# Altium schematic symbol library FPGA_breakout_board.SCHLIB: 34 symbols
Pins are listed as number, name and electrical type; pins without a type are passive.

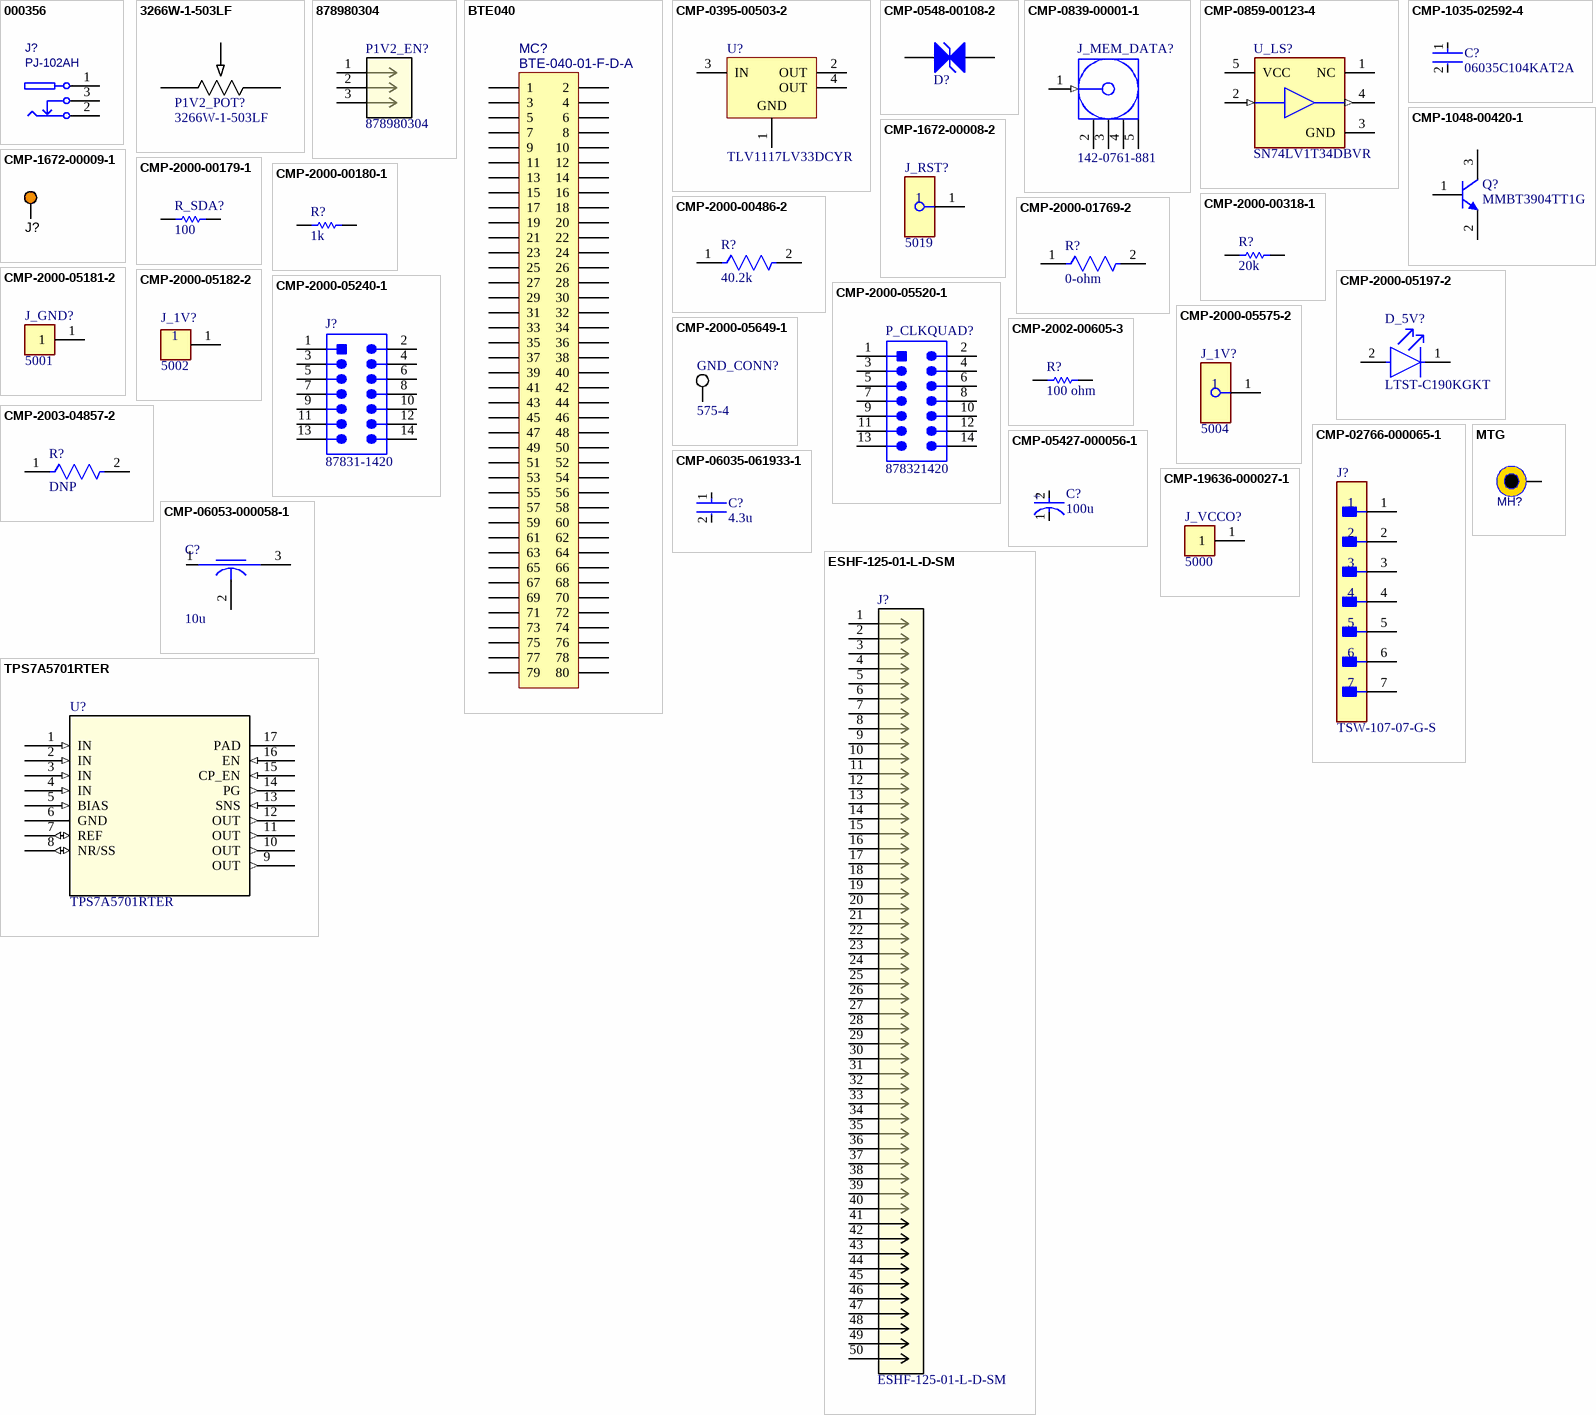
[diagram p0: symbols 000356 to TPS7A5701RTER]

## 000356
designator J?, comment PJ-102AH
DC power connector - high current; Manufacturer: CUI Inc.; partnumber: 000356; Description 2: 2.1mm / 5.5mm; Manufacturer_PN: PJ-102AH; Supplier 1: Digikey; Supplier Part Number 1: CP-102AH-ND; ClassName: InputPowerComponent
footprint CUI-PJ102A
pins: 1, 2, 3

## 3266W-1-503LF
designator P1V2_POT?
No Description Available; Mfr_Name: Bourns Electronics; Supplier 1: Digikey; Supplier Part Number 1: 3266W-503LF-ND
footprint POT_3266W
pins: 1, 2, 3

## 878980304
designator P1V2_EN?
No Description Available; Mfr_Name: Molex Connector Corporation; RefDes: RefDes; Type: Type
footprint CONN03_87898_M-5p84_MOL
pins: 1, 2, 3

## BTE040
designator MC?, comment BTE-040-01-F-D-A
0.8mm high-density header; Manufacturer: Samtec; partnumber: 000059; Description 2: 80-pin, Gold flash, Mated height: 5.00mm (0.197 inch); Manufacturer_PN: BTE-040-01-F-D-A; updated_on: 1/18/2016 3:47:24 PM
footprint BTE-040
pins: 1, 2, 3, 4, 5, 6, 7, 8, 9, 10, 11, 12, 13, 14, 15, 16, 17, 18, 19, 20, 21, 22, 23, 24, 25, 26, 27, 28, 29, 30, 31, 32, 33, 34, 35, 36, 37, 38, 39, 40, 41, 42, 43, 44, 45, 46, 47, 48, 49, 50, 51, 52, 53, 54, 55, 56, 57, 58, 59, 60, 61, 62, 63, 64, 65, 66, 67, 68, 69, 70, 71, 72, 73, 74, 75, 76, 77, 78, 79, 80

## CMP-0395-00503-2
designator U?, comment TLV1117LV33DCYR
Single Output LDO, 1 A, Fixed 3.3 V Output, 2 to 5.5 V Input, 4-pin SOT-223 (DCY), -40 to 125 degC, Green (RoHS & no Sb/Br); Manufacturer: Texas Instruments; Vout Adj(Min)(V): 3.3; Vdo(Typ)(mV): 1200; Iq(Typ)(mA): 0.05; Accuracy(%): 2; Iout(Max)(A): 1; SubFamily: Single Channel LDO; Vin(Max)(V): 5.5; PackageReference: DCY0004A; PackageDescription: 4-Pin Plastic Small Outline, Body 3.5 x 6.5 mm, Pitch 2.3 mm; Vout Adj(Max)(V): 3.3; Mounting Technology: Surface Mount; ComponentLink2Description: Datasheet; ComponentLink1Description: Manufacturer URL; PartNumber: TLV1117LV33DCYR; ComponentLink3Description: Package Specification; ComponentLink1URL: http://www.ti.com/; ComponentLink2URL: http://www.ti.com/general/docs/lit/getliterature.tsp?genericPartNumber=TLV1117LV33&fileType=pdf; Fixed Output Options(V): 3.3; PackageVersion: 4202506/B; Vin(Min)(V): 2; DatasheetVersion: SBVS160A; Eco-Plan: Green (RoHS & no Sb/Br); ComponentLink3URL: http://www.ti.com/litv/pdf/mpds094a; Code_JEDEC: TO-261
footprint DCY0004A_N (SOT223, 4-Leads, Body 6.7x3.7mm, Pitch 2.3mm, IPC Medium Density)
footprint DCY0004A_L (SOT223, 4-Leads, Body 6.7x3.7mm, Pitch 2.3mm, IPC High Density)
footprint DCY0004A_M (SOT223, 4-Leads, Body 6.7x3.7mm, Pitch 2.3mm, IPC Low Density)
pins: 1 GND (power) "Ground pin", 2 OUT (power) "Regulated output voltage pin.", 3 IN (power) "Input pin.", 4 OUT (power) "Regulated output voltage pin."

## CMP-0548-00108-2
designator D?, comment SMAJ6.0CAHE3/5A  (value not drawn)
Transient Voltage Suppressor, 6.40 to 231 V, 6 V Stand-off Voltage, Bi-Directional, -55 to 155 degC, 2-pin DO-214AC, Pb-Free, Tape and Reel; Manufacturer: Vishay Semiconductor; VBR Bi-Directional (V): 6.4 to 231; VWM (V): 6; IFSM: 40 A; ID (uA): 1600; PPPM (W): 400, 300; PackageDescription: 2-Pin DO-214AC (SMA), Body 4.245 x 2.665 mm; Packing: Tape and Reel; RoHS: TRUE; ComponentLink3Description: Package Specification; ComponentLink2Description: Datasheet; Mounting Technology: Surface Mount; Operating Junction and Storage Temperature Range: -55 to 150 degC; ComponentLink2URL: http://www.vishay.com/docs/88390/smaj50a.pdf; ComponentLink1Description: Manufacturer URL; DatasheetVersion: 12/8/2013; PackageReference: DO-214AC-2; ComponentLink3URL: http://www.vishay.com/docs/88390/smaj50a.pdf; PartNumber: SMAJ6.0CAHE3/5A; ComponentLink1URL: http://www.vishay.com/; Supplier 1: Mouser; Supplier Part Number 1: 78-SMAJ6.0CAHE3_A/H
footprint VISH-DO-214AC-2_L (DO-214AC, 2-Leads, Body 4.5x2.79mm, IPC High Density)
footprint VISH-DO-214AC-2_N (DO-214AC, 2-Leads, Body 4.5x2.79mm, IPC Medium Density)
footprint VISH-DO-214AC-2_M (DO-214AC, 2-Leads, Body 4.5x2.79mm, IPC Low Density)
pins: 1 A1, 2 A2

## CMP-0839-00001-1
designator J_MEM_DATA?, comment 142-0761-881
SMA High Freq End Launch Jack Receptacle, PCB Mount, 10 MIL Pin, 26.5 GHz, 50 Ohm, -65 to 165 degC, Round Body Radius 6.27 mm, Body Length 9.52 mm, RoHS; Manufacturer: Emerson Network Power; Body Meaterial: Brass; Impedance: 50 Ohm; Body Plating: Gold; DatasheetVersion: Rev. 0; ComponentLink3URL: https://emersonconnectivity.com/OA_MEDIA/drawings/dr-142-0761-881.pdf; Operating Temperature: -65 to 165 degC; RoHS: TRUE; ComponentLink1URL: https://emersonconnectivity.com/; Mounting Technology: Through Hole; PackageVersion: Rev. 0; PartNumber: 142-0761-881; Termination Type: Solder; Termination Style: Printed Circuit Board; PackageDescription: Jack Receptacle - PC Mount, Body Radius 6.27 mm, Body Length 9.52 mm; Mouting Style: End Launch; PackageReference: 142-0761-881-5; Gender: Jack; Max Frequency: 26.5 GHz; ComponentLink2URL: http://emersonconnectivity.com/OA_MEDIA/drawings/dr-142-0761-881.pdf; ComponentLink3Description: Package Specification; ComponentLink2Description: Datasheet; ComponentLink1Description: Manufacturer URL; Contact Plating: Gold; Series: SMA HF
footprint EMSN-142-0761-881-5_V (Jack Receptacle - PC Mount, Body Radius 6.27mm, Body Length 9.52mm)
pins: 1 Signal (in) "Signal Pin", 2 GND (power), 3 GND (power), 4 GND (power), 5 GND (power)

## CMP-0859-00123-4
designator U_LS?, comment SN74LV1T34DBVR
IC BUF NON-INVERT 5.5V SOT23-5; Low Level Output Current: 8mA; Polarity: Non-Inverting; Number of Channels: 1; Propagation Delay: 15.5ns; High Level Output Current: -8mA; Quiescent Current: 1uA; Logic Function: Buffer; Min Supply Voltage: 1.6V; Min Operating Temperature: -40°C; Package Quantity: 3000; Max Operating Temperature: 125°C; Operating Supply Current: 8mA; Radiation Hardening: No; REACH SVHC: No SVHC; Number of Bits per Element: 1; Mount: Surface Mount; Number of Outputs: 1; Lead Free: Lead Free; Number of Pins: 5; Weight: 0.000353oz; Number of Output Lines: 1; Number of Elements: 1; Number of Input Lines: 1; Number of Bits: 1; Case/Package: SOT-23-5; Packaging: Tape and Reel; Max Supply Voltage: 5.5V; Number of Inputs: 1
footprint FP-DBV0005A-MFG
footprint FP-DBV0005A-IPC_B
footprint FP-DBV0005A-IPC_C
footprint FP-DBV0005A-IPC_A
pins: 1 NC, 2 A (in), 3 GND (power), 4 Y (out), 5 VCC (power)

## CMP-1035-02592-4
designator C?, comment 06035C104KAT2A
General Purpose Ceramic Capacitor, 0603, 100nF, 10%, X7R, 15%, 50V; Dissipation Factor: 2.5%; Radiation Hardening: No; Termination: SMD/SMT; Tolerance: 10%; Lead Free: Lead Free; Width: 0.81mm; Max Operating Temperature: 125°C; Thickness: 0.035inch; Voltage Rating: 50V; Height: 0.9mm; Case/Package: 0603; Depth: 0.81mm; Number of Pins: 2; Capacitance: 100nF; REACH SVHC: No SVHC; Case Code (Imperial): 0603; Voltage: 50V; Voltage Rating (DC): 50V; Mount: Surface Mount; Length: 1.6mm; Min Operating Temperature: -55°C; Packaging: Tape and Reel; Case Code (Metric): 1608; Dielectric Material: Ceramic; Package Quantity: 1; Dielectric: X7R; Contact Plating: Tin
footprint FP-0603-L_1_6_0_15-W_0_81-MFG
footprint FP-0603-L_1_6_0_15-W_0_81-IPC_B
footprint FP-0603-L_1_6_0_15-W_0_81-IPC_A
footprint FP-0603-L_1_6_0_15-W_0_81-IPC_C
pins: 1, 2

## CMP-1048-00420-1
designator Q?, comment MMBT3904TT1G
General Purpose Transistor, NPN Silicon, 3-Pin SC-75, Pb-Free, Tape and Reel; Manufacturer: On Semiconductor; IC Continuous (A): 0.2; fT Min (MHz): 300; ComponentLink3URL: http://www.onsemi.com/pub_link/Collateral/463-01.PDF; DatasheetVersion: Rev. 5; RoHS: TRUE; Mounting Technology: Surface Mount; ComponentLink1URL: http://www.onsemi.com/; ComponentLink3Description: Package Specification; PackageReference: SC-75-3-463-01; Polarity: NPN; ComponentLink2Description: Datasheet; PackageVersion: Rev. F, 07/2005; PartNumber: MMBT3904TT1G; ComponentLink2URL: http://www.onsemi.cn/pub_link/Collateral/MMBT3904TT1-D.PDF; ComponentLink1Description: Manufacturer URL; PackageDescription: 3-Pin Small Outline Transistor, Body 1.6 x 0.8 mm, Pitch 0.5 mm; Packing: Tape and Reel
footprint ONSC-SC-75-3-463-01_V (SOT23, 3-Leads, Body 1.6x0.8mm, Pitch 0.5mm)
pins: 1 B, 2 E, 3 C

## CMP-1672-00008-2
designator J_RST?, comment 5019
NexarPartId: 22052288; Number of Contacts: 1; Contact Material: Bronze, Silver; Number of Pins: 1; Lead Free: Lead Free; Packaging: Tape and Reel; Mount: Surface Mount; Height: 2.286mm; Contact Plating: Silver; Material: Bronze; Termination: SMD/SMT; REACH SVHC: No SVHC; RoHS: Compliant
footprint FP-5019-MFG
pins: 1

## CMP-1672-00009-1
designator J?, comment 5003  (value not drawn)
Test Point, Orange, 1-Pin THD, RoHS; Peak Reverse Current: 600 uA; Forward Current: 3 A; Max Surge Current: 80 A; Forward Voltage: 1.08 V; Packaging: Bulk; Mount: Through Hole; Height: 0.25 inch; REACH SVHC: No SVHC; Max Operating Temperature: 150 degC; PackageReference: 5003; Pins: 2; ComponentLink2URL: http://keyelco.com/userAssets/file/M65p56.pdf; PackageDescription: 1-Pin Through Hole Device, Dia 2.54 mm; Weight: 0.01 lb; Diameter: 5.3 mm; Package Quantity: 500; Min Operating Temperature: -65 degC; ComponentLink1Description: Manufacturer URL; ComponentLink1URL: http://www.keyelco.com/; ComponentLink2Description: Datasheet; Width: 0.25 inch; RoHSCompliant: true; Radiation Hardening: No; Length: 9.5 mm; DatasheetVersion: Jun-15
footprint KSTN-5003 (Test Point, Through Hole, Dia 2.54mm)
pins: 1

## CMP-2000-00179-1
designator R_SDA?, comment 100
Manufacturer: Panasonic; Part Number: ERJ-3EKF1000V
footprint RESC1608X55X30LL15T15 (Chip Resistor, 2-Leads, Body 1.60x0.80mm, IPC High Density)
footprint RESC1608X55X30ML15T15 (Chip Resistor, 2-Leads, Body 1.60x0.80mm, IPC Low Density)
footprint RESC1608X55X30NL15T15 (Chip Resistor, 2-Leads, Body 1.60x0.80mm, IPC Medium Density)
pins: 1, 2
1 alternate drawing of the same symbol

## CMP-2000-00180-1
designator R?, comment 1k
Part Number: ERJ-3EKF1001V; Manufacturer: Panasonic
footprint RESC1608X55X30LL15T15 (Chip Resistor, 2-Leads, Body 1.60x0.80mm, IPC High Density)
footprint RESC1608X55X30ML15T15 (Chip Resistor, 2-Leads, Body 1.60x0.80mm, IPC Low Density)
footprint RESC1608X55X30NL15T15 (Chip Resistor, 2-Leads, Body 1.60x0.80mm, IPC Medium Density)
pins: 1, 2
1 alternate drawing of the same symbol

## CMP-2000-00318-1
designator R?, comment 20k
Part Number: ERJ-3EKF2002V; Manufacturer: Panasonic
footprint RESC1608X55X30ML15T15 (Chip Resistor, 2-Leads, Body 1.60x0.80mm, IPC Low Density)
footprint RESC1608X55X30NL15T15 (Chip Resistor, 2-Leads, Body 1.60x0.80mm, IPC Medium Density)
footprint RESC1608X55X30LL15T15 (Chip Resistor, 2-Leads, Body 1.60x0.80mm, IPC High Density)
pins: 1, 2
1 alternate drawing of the same symbol

## CMP-2000-00486-2
designator R?, comment 40.2k
RES SMD 40.2K OHM 1% 1/10W 0603; Power Rating: 100mW; Resistance: 40.2kR; Voltage Rating: 75V; Temperature Coefficient: 100ppm/°C; Voltage Rating (DC): 50V; Military Standard: Not; Lead Free: Lead Free; Resistor Type: Thick Film; Weight: 7.1E-05oz; Resistance Tolerance: 1%; Number of Terminations: 2; Min Operating Temperature: -55°C; Depth: 0.8mm; Max Power Dissipation: 100mW; Length: 1.6mm; Case Code (Imperial): 0603; Max Operating Temperature: 155°C; Series: ERJ; Radiation Hardening: No; Features: Automotive AEC-Q200; Mount: Surface Mount; Package Quantity: 1; Packaging: Tape and Reel; Height: 0.45mm; Width: 0.031inch; RoHS Compliant: Yes; Case/Package: 0603; Tolerance: 1%; Contact Plating: Tin; Technology: THICK FILM; Construction: Rectangular; Case Code (Metric): 1608; Termination: SMD/SMT
footprint FP-ERJ3EK-IPC_C
footprint FP-ERJ3EK-MFG
footprint FP-ERJ3EK-IPC_A
footprint FP-ERJ3EK-IPC_B
pins: 1, 2

## CMP-2000-01769-2
designator R?, comment 0-ohm
RES 0 OHM JUMPER 0603; Resistance: 0mR; Power Rating: 1W; Tolerance: 1%; Temperature Coefficient: 400ppm/°C; Width: 0.8mm; Case/Package: 0603; RoHS Compliant: Yes; Min Operating Temperature: -55°C; Length: 1.6mm; Termination: SMD/SMT; Package Quantity: 5000; Packaging: Tape and Reel; Military Standard: Not; Series: RK73Z; Construction: Rectangular; Case Code (Metric): 1608; Resistor Type: Thick Film; Case Code (Imperial): 0603; Lead Free: Lead Free; Max Operating Temperature: 155°C; Depth: 0.8mm; Height: 0.45mm
footprint FP-RK73Z1J-IPC_B
footprint FP-RK73Z1J-MFG
footprint FP-RK73Z1J-IPC_A
footprint FP-RK73Z1J-IPC_C
pins: 1, 2

## CMP-2000-05181-2
designator J_GND?, comment 5001
PC TEST POINT MINIATURE BLACK; Body Material: Bronze; Plating: Silver; Inside Diameter: 1.27mm; Hole Diameter: 1.6mm; Number of Ports: 1; Outside Diameter: 2.54mm; Insulation: Insulated; Insulation Material: Nylon; Mount: Through Hole; RoHS Compliant: Yes; Series: THM; Height: 0.3inch; Termination: Through Hole; Material: Nylon; Packaging: Bulk; Contact Material: Bronze; REACH SVHC: No SVHC; Contact Plating: Silver; Orientation: Straight; Lead Free: Lead Free; Package Quantity: 100; Length: 7.62mm; Flammability Rating: UL94 V-0; Number of Contacts: 1; Diameter: 2.54mm; Housing Color: Black; Color: Black
footprint FP-5001-MFG
pins: 1

## CMP-2000-05182-2
designator J_1V?, comment 5002
PC TEST POINT MINIATURE WHITE; Body Material: Bronze; Insulation: Insulated; Inside Diameter: 1.27mm; Number of Ports: 1; Outside Diameter: 2.54mm; Hole Diameter: 1.6mm; Plating: Silver; Contact Plating: Silver; Orientation: Straight; REACH SVHC: No SVHC; Series: THM; Packaging: Bulk; Material: Nylon; Flammability Rating: UL94 V-0; Mount: Through Hole; Color: White; Housing Color: White; Length: 7.62mm; Contact Material: Bronze; Lead Free: Lead Free; Package Quantity: 100; RoHS Compliant: Yes; ClassName: InputPowerComponent
footprint FP-5002-MFG
pins: 1

## CMP-2000-05197-2
designator D_5V?, comment LTST-C190KGKT
LED GREEN CLEAR CHIP SMD; Test Current: 20mA; Power Rating: 75mW; Forward Voltage: 2V; Wavelength: 574nm; Number of LEDs: 1; Reverse Voltage: 5V; Dominant Wavelength: 571nm; Lens Style: Diffused; Luminous Intensity: 35mcd; Forward Current: 30mA; Viewing Angle: 130°; Lens Color: Colorless; Width: 0.8mm; Case Code (Imperial): 0603; Case Code (Metric): 1608; Number of Pins: 2; Radiation Hardening: No; Package Quantity: 1; Lead Free: Lead Free; Lens Transparency: Clear; Depth: 0.8mm; Power Dissipation: 75mW; Mount: Surface Mount; Max Operating Temperature: 85°C; Case/Package: 0603; Height: 0.8mm; Illumination Color: Green; Color: Green; Length: 1.6mm; Packaging: Tape and Reel; Number of Elements: 1; Min Operating Temperature: -55°C
footprint FP-LTST-C190KGKT-MFG
pins: 1 C, 2 A

## CMP-2000-05240-1
designator J?, comment 87831-1420
Header, Pitch 2 mm, 2 x 7 Position, Height 6.4 mm, Tail Length 2.5 mm, -55 to 105 degC, RoHS, Tube; Number of Positions / Contacts: 14; Current Rating: 2A; Brand: Molex; Mounting Angle: Vertical; Pitch: 2mm; Voltage Rating: 125V; Datasheet Version: Rev. E, 04/2006; Housing Material: Thermoplastic; Contact Material: Brass; Datasheet URL: https://datasheet.ciiva.com/27096/1934585-27096088.pdf; Type: Shrouded; Number of Positions: 14; Mounting Style: ThroughHole; Product Category: Headers&WireHousings; RoHS: Details; Factory Pack Quantity: 3200; Contact Plating: Gold; Series: 87831; Number of Rows: 2; Manufacturer: Molex; Product Type: Headers; Termination Style: ThroughHole; Packaging: Tube; Tradename: Milli-Grid; Manufacturer URL: http://www.molex.com/
footprint MOLEX-87831-1420_V (Connector, 14-Leads, Body 16.65x6.3mm, Pitch 2mm)
pins: 1, 2, 3, 4, 5, 6, 7, 8, 9, 10, 11, 12, 13, 14

## CMP-2000-05520-1
designator P_CLKQUAD?, comment 878321420
Male Header, Pitch 2 mm, 2 x 7 Position, Height 7.6 mm, -55 to 105 degC, RoHS; Manufacturer: Molex; Datasheet URL: http://www.molex.com/pdm_docs/sd/878321420_sd.pdf; Package Description: Male Header, Pitch 2 mm, 2 x 7 Positions, Height 7.6 mm; Manufacturer URL: http://www.molex.com/; Package Reference: 878321420; Datasheet Version: Rev. G, 01/2012; Mounting Technology: SurfaceMount
footprint MOLX-878321420_V (SMD, 14-Leads, Body 16.65x6.3mm, Pitch 2mm)
pins: 1, 2, 3, 4, 5, 6, 7, 8, 9, 10, 11, 12, 13, 14

## CMP-2000-05575-2
designator J_1V?, comment 5004
PC TEST POINT MINIATURE YELLOW; Manufacturer: Keystone; Number Of Contacts: 1; Is Female: yes; Device Class L1: Connectors; Manufacturer Part Number: 5004; Digikey Description: PC TEST POINT MINIATURE YELLOW; ComponentLink2URL: https://www.keyelco.com/product-pdf.cfm?p=1313; Lead Free: Yes; ComponentLink2Description: Datasheet; Category: Conn; Height: 4.72mm; Octopart: https://octopart.com/5004-keystone-28591; Mouser Description: TEST POINT PC MINI .040"D YELLOW; Device Class L3: unset; Contact Material: Silver; Package: 5004; Automotive: No; Device Class L2: unset; RoHS: TRUE
footprint FP-5004-MFG
pins: 1

## CMP-2000-05649-1
designator GND_CONN?, comment 575-4
Banana Jack, Non-Insulated, 1-Pin THD, RoHS, Bulk; Manufacturer: Keystone-Electronics; Package Version: Rev. B, 11/1994; Plug/Mating Plug Diameter: StandardBanana; Gender: Female; Package Reference: 575-4; Operating Temperature: -; Contact Material: Brass; Packaging: Bulk; Series: -; Category: Connectors,Interconnects; Color: -; Type: BananaJack; Contact Finish: Nickel; Features: -; Family: BananaandTipConnectors-Jacks,Plugs; Body Material: -; Manufacturer URL: http://www.keyelco.com/; Termination: Solder; Insulation: Non-Insulated; Datasheet Version: Rev. B, 11/1994; Mounting Technology: ThroughHole; Package URL: http://www.keyelco.com/product-pdf.cfm?p=2379; Mounting Type: ThroughHole; Package Description: 1-Pin Through Hole Device, Dia 7.92 mm; Datasheet URL: http://www.keyelco.com/product-pdf.cfm?p=2379; Wire Gauge: -; ClassName: InputPowerComponent
footprint KSTN-575-4 (Banana Jack, Non-Insulated, Dia 7.92mm)
pins: 1

## CMP-2002-00605-3
designator R?, comment 100 ohm
Chip Resistor, 100 Ohm, +/- 1%, 100 mW, -55 to 155 degC, 0402 (1005 Metric), RoHS, Tape and Reel; Manufacturer: Basic Passives; PartNumber: ERJ-2RKF1000X; Power Rating: 100 mW; Voltage Rating: 50 V; Case\/Package: 0402; Width: 0.5 mm; Pins: 2; ComponentLink2Description: Datasheet; PackageReference: 0402; Height: 0.35 mm; Tolerance: 1%; DatasheetVersion: 04/2015; Case Code (Imperial): 0402; Min Operating Temperature: -55 degC; Radiation Hardening: No; Length: 1 mm; Package Quantity: 10000; PackageDescription: 2-Pin Surface Mount Device, Body 1 x 0.5 mm; Mounting Technology: Surface Mount; Case Code (Metric): 1005; Packaging: Tape and Reel; ComponentLink1URL: http://www.panasonic.com/; RoHSCompliant: true; Max Operating Temperature: 155 degC; REACH SVHC: Yes; ComponentLink1Description: Manufacturer URL; Resistance: 100 Ohm; ComponentLink2URL: http://industrial.panasonic.com/cdbs/www-data/pdf/RDA0000/AOA0000C86.pdf; Mount: Surface Mount
footprint RESC1005X40X25LL05T05 (Chip Resistor, 2-Leads, Body 1.05x0.55mm, IPC High Density)
footprint RESC1005X40X25ML05T05 (Chip Resistor, 2-Leads, Body 1.05x0.55mm, IPC Low Density)
footprint RESC1005X40X25NL05T05 (Chip Resistor, 2-Leads, Body 1.05x0.55mm, IPC Medium Density)
pins: 1, 2

## CMP-2003-04857-2
designator R?, comment DNP
RES Thick Film, 0Ω, 0.25W, 1206; Resistance: 0mR; Power Rating: 250mW; Temperature Coefficient: 100ppm/°C; Tolerance: 1%; Voltage Rating (DC): 200V; Width: 1.6mm; Termination: SMD/SMT; Contact Plating: Tin; Min Operating Temperature: -55°C; Military Standard: Not; Mount: Surface Mount; Case Code (Metric): 3216; Case Code (Imperial): 1206; Packaging: Tape and Reel; Depth: 1.6mm; Case/Package: 1206; Radiation Hardening: No; Height: 0.55mm; Package Quantity: 5000; Weight: 0.000353oz; Max Operating Temperature: 155°C; Length: 3.2mm; Composition: Thick Film; Lead Free: Lead Free; Voltage Rating: 200V
footprint FP-CRCW1206-e3-IPC_C
footprint FP-CRCW1206-e3-MFG
footprint FP-CRCW1206-e3-IPC_A
footprint FP-CRCW1206-e3-IPC_B
pins: 1, 2

## CMP-02766-000065-1
designator J?, comment TSW-107-07-G-S
CONN HEADER VERT 7POS 2.54MM; Manufacturer: SAMTEC; Conn Orientation: Straight; Number Of Contacts: 7; Conn Gender: Male; Lead Free: Yes; Automotive: No; Temperature Range High: +125°C; Pitch: 2.54mm; Footprint Url: http://suddendocs.samtec.com/prints/tsw-xxx-xx-x-x-xx-xxx-footprint.pdf; Device Class L1: Connectors; Contact Material: Gold,Nickel; RoHS: TRUE; ComponentLink2URL: http://suddendocs.samtec.com/prints/tsw-xxx-xx-xxx-x-xx-xxx-mkt.pdf; Manufacturer Part Number: TSW-107-07-G-S; Octopart: https://octopart.com/tsw-107-07-g-s-samtec-272202; Digikey Description: CONN HEADER VERT 7POS 2.54MM; Number Of Rows: 1; Temperature Range Low: -55°C; Device Class L2: Headers and Wire Housings; ComponentLink2Description: Datasheet; Category: Conn; Device Class L3: unset; Mouser Description: Conn Unshrouded Header HDR 7 POS 2.54mm Solder ST Thru-Hole Automotive Bulk; Temperature: -55°C to +125°C; Height: 8.71mm; Package: 0; ClassName: InputPowerComponent
footprint FP-TSW-107-07-G-S-MFG
pins: 1, 2, 3, 4, 5, 6, 7

## CMP-05427-000056-1
designator C?, comment 100u
CAP ALUM POLY 100UF 20% 6.3V SMD; Leakage Current: 63uA; Polarity: Polar; Lead Diameter: 2.4mm; Dissipation Factor: 0.06%; Ripple Current: 2.7A; ESR (Equivalent Series Resistance): 15mR; Life (Hours): 1000Hour; Voltage Rating: 6.3V; Case/Package: 2917; Lead Pitch: 1.3mm; Series: SP-Cap CX; Weight: 0.004586oz; Radiation Hardening: No; Case Code (Imperial): 2917; Length: 7.3mm; Number of Pins: 2; Lead Free: Lead Free; REACH SVHC: No SVHC; Max Operating Temperature: 105°C; Package Quantity: 3500; Packaging: Tape and Reel; Height - Seated (Max): 0.075inch; Mount: Surface Mount; Height: 1.9mm; Termination: SMD/SMT; Voltage: 6.3V; Construction: Flat; Width: 0.169inch; Ripple Current (AC): 2.7A; Capacitance: 100uF; Voltage Rating (DC): 6.3V; Case Code (Metric): 7343; Min Operating Temperature: -40°C; Tolerance: 20%; RoHS Compliant: Yes; Depth: 4.3mm
footprint FP-CX-MFG
pins: 1 C, 2 A
text: +

## CMP-06035-061933-1
designator C?, comment 4.3u
Cap Ceramic Monolithic 4.3uF 20% 4V X5R 15% 02404 (0610M); Capacitance: 4.3uF; Tolerance: 20%; Min Operating Temperature: -55°C; Case/Package: 0204; Voltage Rating: 4V; Mount: Surface Mount; Max Operating Temperature: 85°C; Packaging: Tape and Reel; RoHS Compliant: Yes
footprint FP-LLL1U4-0_05-IPC_C
footprint FP-LLL1U4-0_05-IPC_B
footprint FP-LLL1U4-0_05-IPC_A
footprint FP-LLL1U4-0_05-MFG
pins: 1, 2

## CMP-06053-000058-1
designator C?, comment 10u
CAP FEEDTHRU
footprint FP-NFM15-0_2-MFG
pins: 1 Input, 2 GND, 3 Output

## CMP-19636-000027-1
designator J_VCCO?, comment 5000
PC TEST POINT MINIATURE RED; Outside Diameter: 2.54mm; Body Material: Bronze; Number of Contacts: 1; Insulation: Insulated; Inside Diameter: 1.27mm; Hole Diameter: 1.6mm; Plating: Silver; Length: 7.62mm; Package Quantity: 100; Number of Ports: 1; Contact Material: Bronze; Orientation: Straight; RoHS Compliant: Yes; Housing Color: Red; Height: 0.3inch; Series: THM; Lead Free: Lead Free; Color: Red; Contact Plating: Tin; Mount: PCB; Packaging: Bulk; REACH SVHC: No SVHC; Flammability Rating: UL94 V-0; Material: Nylon
footprint FP-5000-MFG
pins: 1

## ESHF-125-01-L-D-SM
designator J?
No Description Available; Mfr_Name: Samtec Inc; Type: Headers, Male Pins; RefDes: RefDes; ClassName: InputPowerComponent; Supplier 1: Digikey; Supplier Part Number 1: SAM15560-ND
footprint CONN_ESHF-125-01-x-D-SM_SAI
pins: 1, 2, 3, 4, 5, 6, 7, 8, 9, 10, 11, 12, 13, 14, 15, 16, 17, 18, 19, 20, 21, 22, 23, 24, 25, 26, 27, 28, 29, 30, 31, 32, 33, 34, 35, 36, 37, 38, 39, 40, 41, 42, 43, 44, 45, 46, 47, 48, 49, 50

## MTG
designator MH?  (value not drawn)
Mounting hole
footprint MTG-2.7/5.0-PTH (Mounting hole, 2.7mm ID, 5.0mm OD, plated)
footprint MTG-3.0/5.0-PTH (Mounting hole, 3.0mm ID, 5.0mm OD, plated)
footprint MTG-5.0/10.0-PTH (Mounting hole, 6.0mm ID, 11.0mm OD, plated)
footprint MTG-2.5/5.0-PTH (Mounting hole, 2.5mm ID, 5.0mm OD, plated)
footprint MTG-3.2/6.5-PTH (Mounting hole, 3.2mm ID, 6.5mm OD, plated)
pins: 1

## TPS7A5701RTER
designator U?
No Description Available; Mfr_Name: Texas Instruments; RefDes: RefDes; Type: Type
footprint WQFN16_RTE_TEX
pins: 1 IN (in), 2 IN (in), 3 IN (in), 4 IN (in), 5 BIAS (in), 6 GND (power), 7 REF (io), 8 NR/SS (io), 9 OUT (out), 10 OUT (out), 11 OUT (out), 12 OUT (out), 13 SNS (in), 14 PG (out), 15 CP_EN (in), 16 EN (in), 17 PAD (power)